# Altium footprint library Darkside_Lib.PcbLib: 55 footprints (part 4 of 4)
Each footprint in its own frame and in the unit in brackets; x right, y up, seen from the top. Pads: shape width x height; smd on the part's side, far side on the other; paste and mask are expansions set on the pad; w line width, h text height; cw(c..) or ccw(c..) is an arc to the next point about the centre after c.
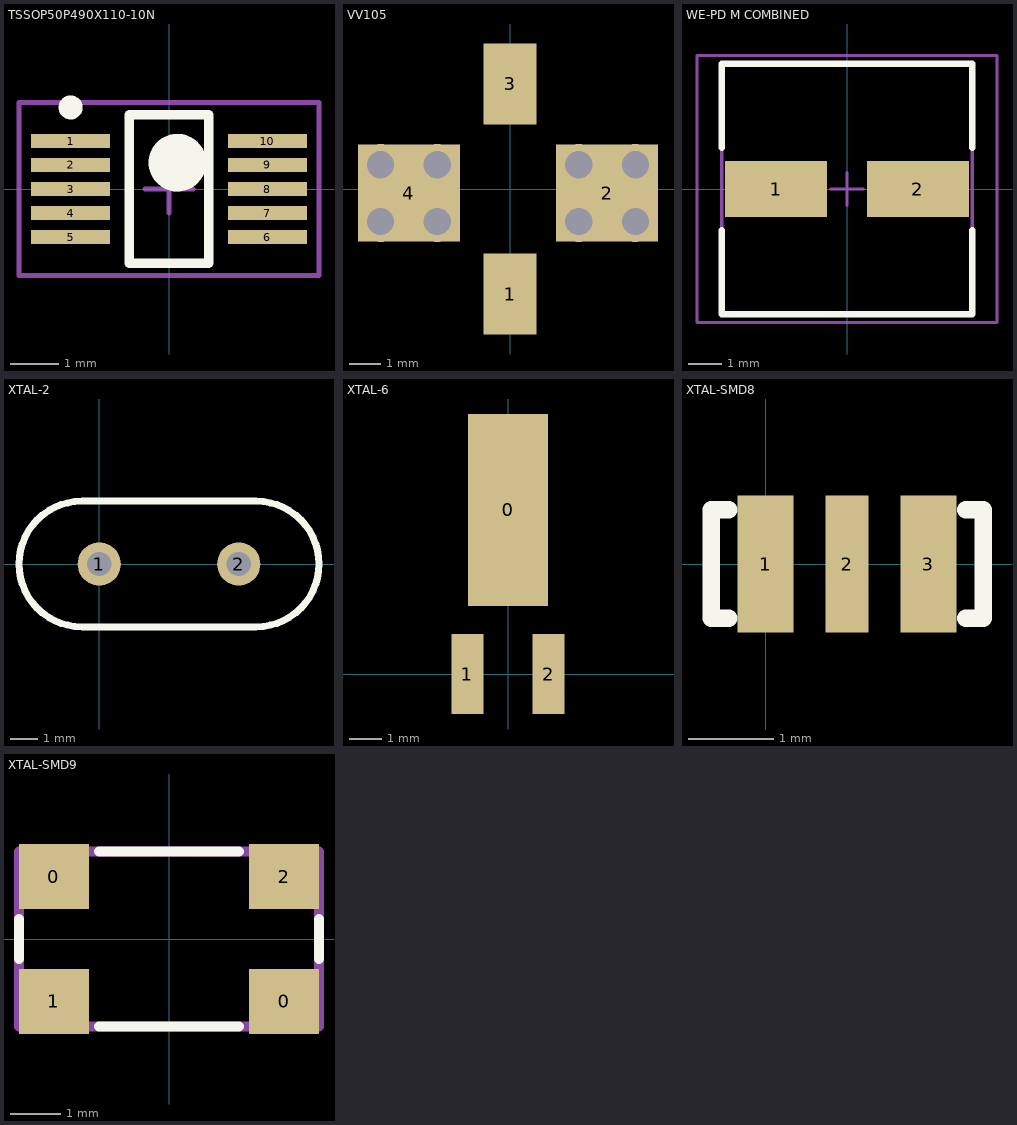
[diagram p3: the footprints below, top view; thin cyan lines are the x and y axes]

## TSSOP50P490X110-10N [mm] "TSSOP, 10-Leads, Body 3.1x3.1mm (max), Pitch 0.50mm, IPC Medium Density"
height 1.1
pads (10):
  rect 1.65x0.3 smd: 1(-2.05,1) 2(-2.05,0.5) 3(-2.05,0) 4(-2.05,-0.5) 5(-2.05,-1) 6(2.05,-1) 7(2.05,-0.5) 8(2.05,0) 9(2.05,0.5) 10(2.05,1)
Top Overlay:
  circle w0.25: c-2.05,1.7 r0.125
  circle w0.6: c0.175,0.55 r0.3
  lines w0.2: -0.825,-1.55 -0.825,1.55 0.825,1.55 0.825,-1.55 -0.825,-1.55
Mechanical 15:
  lines w0.1: -0.5,0 0.5,0 ; 0,-0.5 0,0.5 ; -3.125,-1.8 -3.125,1.8 3.125,1.8 3.125,-1.8 -3.125,-1.8

## VV105 [mil]
pads (4):
  rect 66x100 smd: 1(0,-130) 3(0,130)
  rect 126x120 smd: 2(120,-5) 4(-125,-5)
via 155,-40 diameter 51.18 hole 33.46
via 85,-40 diameter 51.18 hole 33.46
via 155,30 diameter 51.18 hole 33.46
via 85,30 diameter 51.18 hole 33.46
via -160,-40 diameter 51.18 hole 33.46
via -160,30 diameter 51.18 hole 33.46
via -90,30 diameter 51.18 hole 33.46
via -90,-40 diameter 51.18 hole 33.46

## WE-PD M COMBINED [mm] "SMD Inductor, 2-Leads, Body 7,3x7,3mm"
height 4.5
pads (2):
  rect 3.1x1.7 smd: 1(-2.15,0) 2(2.15,0)
Top Overlay:
  lines w0.2: -3.8,-1.25 -3.8,-3.8 3.8,-3.8 3.8,-1.25 ; -3.8,1.25 -3.8,3.8 3.8,3.8 3.8,1.25
Mechanical 13:
  lines w0.1: -3.8,-3.8 -3.8,3.8 3.8,3.8 3.8,-3.8 -3.8,-3.8
Mechanical 15:
  lines w0.1: -0.5,0 0.5,0 ; 0,-0.5 0,0.5 ; -4.55,-4.05 -4.55,4.05 4.55,4.05 4.55,-4.05 -4.55,-4.05
3D body: height 4.09, standoff -0.01, extent -3.65,-3.65 3.65,3.65

## XTAL-2 [mil]
pads (2):
  round 62 hole 35: 1(0,0) 2(200,0)
Top Overlay:
  lines w10: -25,-90 cw(c-25,0) -25,90 225,90 cw(c225,0) 225,-90 -25,-90

## XTAL-6 [mm]
pads (3):
  rect 2.5x6 smd: 0(0,5.125)
  rect 1x2.5 smd: 1(-1.27,0) 2(1.27,0)

## XTAL-SMD8 [mm]
pads (3):
  rect 0.65x1.6 smd: 1(0,0) 3(1.9,0)
  rect 0.5x1.6 smd: 2(0.95,0)
Top Overlay:
  lines w0.203: -0.432,-0.635 -0.635,-0.635 -0.635,0.635 -0.432,0.635 ; 2.337,-0.635 2.54,-0.635 2.54,0.635 2.337,0.635

## XTAL-SMD9 [mm]
pads (4):
  rect 1.4x1.3 smd: 0(-2.3,1.25) 0(2.3,-1.25) 1(-2.3,-1.25) 2(2.3,1.25)
Top Overlay:
  lines w0.203: -3,-0.4 -3,0.4 ; -1.4,-1.75 1.4,-1.75 ; -1.4,1.75 1.4,1.75 ; 3,-0.4 3,0.4
Mechanical 1:
  lines w0.203: -3,-1.75 -3,1.75 3,1.75 3,-1.75 -3,-1.75